# Altium footprint library MyPcbLib.PcbLib: 7 footprints
Each footprint in its own frame and in the unit in brackets; x right, y up, seen from the top. Pads: shape width x height; smd on the part's side, far side on the other; paste and mask are expansions set on the pad; w line width, h text height; cw(c..) or ccw(c..) is an arc to the next point about the centre after c.
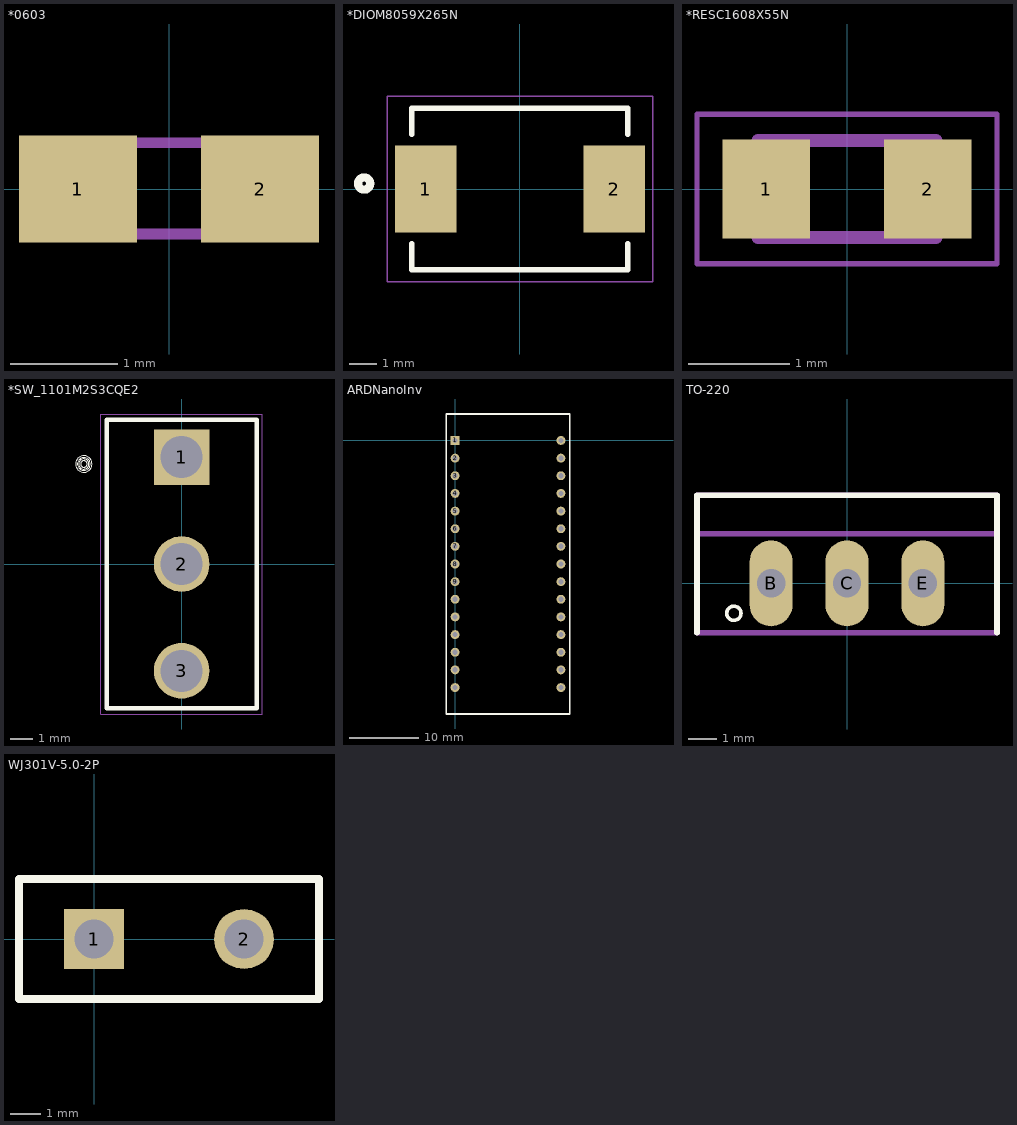
[diagram p0: the footprints below, top view; thin cyan lines are the x and y axes]

## *0603 [mm]
pads (2):
  rect 1.1x1 smd: 1(-0.85,0) 2(0.85,0)
Mechanical 4:
  region: -0.84,0.48 -0.338,0.48 -0.338,-0.471 -0.84,-0.471
  region: 0.331,0.48 0.83,0.48 0.83,-0.471 0.331,-0.471
  region: -0.84,0.48 -0.338,0.48 -0.338,-0.471 -0.84,-0.471
  region: 0.331,0.48 0.83,0.48 0.83,-0.471 0.331,-0.471
  lines w0.102: -0.356,-0.419 0.356,-0.419 -0.356,-0.419 ; -0.356,0.432 0.356,0.432 -0.356,0.432

## *DIOM8059X265N [mm]
pads (2):
  rect 2.25x3.2 smd: 1(-3.45,0) 2(3.45,0)
Top Overlay:
  circle w0.3: c-5.7,0.2 r0.224
  lines w0.2: -3.95,-2 -3.95,-2.95 3.95,-2.95 3.95,-2 ; -3.95,2 -3.95,2.95 3.95,2.95 3.95,2
Mechanical 16:
  lines w0.05: -4.85,-3.4 -4.85,3.4 4.85,3.4 4.85,-3.4 -4.85,-3.4

## *RESC1608X55N [mm]
pads (2):
  rect 0.87x0.98 smd: 1(-0.8,0) 2(0.8,0)
Mechanical 4:
  lines w0.127: -0.88,-0.48 0.88,-0.48 ; -0.88,-0.48 -0.88,0.48 ; -0.88,-0.48 0.88,-0.48 ; -0.88,-0.48 -0.88,0.48 ; -0.88,0.48 0.88,0.48 ; -0.88,0.48 0.88,0.48 ; 0.88,-0.48 0.88,0.48 ; 0.88,-0.48 0.88,0.48
Mechanical 16:
  lines w0.05: -1.485,-0.74 1.485,-0.74 1.485,0.74 -1.485,0.74 -1.485,-0.74

## *SW_1101M2S3CQE2 [mm]
pads (3):
  rect 2.45x2.45 hole 1.85: 1(0,4.7)
  round 2.45 hole 1.85: 2(0,0) 3(0,-4.7)
Top Overlay:
  circle w0.05: c-4.3,4.4 r0.361
  circle w0.05: c-4.3,4.4 r0.283
  circle w0.05: c-4.3,4.4 r0.224
  circle w0.05: c-4.3,4.4 r0.141
  circle w0.05: c-4.3,4.4 r0.224
  circle w0.05: c-4.3,4.4 r0.224
  lines w0.2: -3.3,-6.35 3.3,-6.35 3.3,6.35 -3.3,6.35 -3.3,-6.35
Mechanical 16:
  lines w0.05: -3.55,-6.6 3.55,-6.6 3.55,6.6 -3.55,6.6 -3.55,-6.6

## ARDNanoInv [mil]
pads (30):
  rect 50x50 hole 30: 1(0,0)
  round 50 hole 30: 2(0,-100) 3(0,-200) 4(0,-300) 5(0,-400) 6(0,-500) 7(0,-600) 8(0,-700) 9(0,-800) 10(0,-900) 11(0,-1000) 12(0,-1100) 13(0,-1200) 14(0,-1300) 15(0,-1400) 16(600,-1400) 17(600,-1300) 18(600,-1200) 19(600,-1100) 20(600,-1000) 21(600,-900) 22(600,-800) 23(600,-700) 24(600,-600) 25(600,-500) 26(600,-400) 27(600,-300) 28(600,-200) 29(600,-100) 30(600,0)
Top Overlay:
  lines w10: -50,-1550 650,-1550 650,150 -50,150 -50,-1550

## TO-220 [mm]
pads (3):
  oval 1.508x3.016 hole 1: B(-2.665,0) C(0,0) E(2.665,0)
Top Overlay:
  circle w0.127: c-3.97,-1.05 r0.25
  lines w0.2: -5.265,-1.735 -5.265,3.095 5.265,3.095 5.265,-1.735
Mechanical 4:
  lines w0.2: -5.265,-1.735 5.265,-1.735 ; -5.265,-1.735 -5.265,1.745 ; -5.265,-1.735 5.265,-1.735 ; -5.265,-1.735 -5.265,1.745 ; -5.265,1.745 -5.265,3.095 ; -5.265,1.745 5.265,1.745 ; -5.265,1.745 -5.265,3.095 ; -5.265,1.745 5.265,1.745 ; -5.265,3.095 5.265,3.095 ; -5.265,3.095 5.265,3.095 ; 5.265,-1.735 5.265,1.745 ; 5.265,-1.735 5.265,1.745 ; 5.265,1.745 5.265,3.095 ; 5.265,1.745 5.265,3.095

## WJ301V-5.0-2P [mm]
pads (2):
  rect 2x2 hole 1.3: 1(0,0)
  round 2 hole 1.3: 2(5,0)
Top Overlay:
  lines w0.254: -2.5,-2 -2.5,2 7.5,2 7.5,-2 -2.5,-2